# EAGLE library part BLE112 (library Bluegiga)
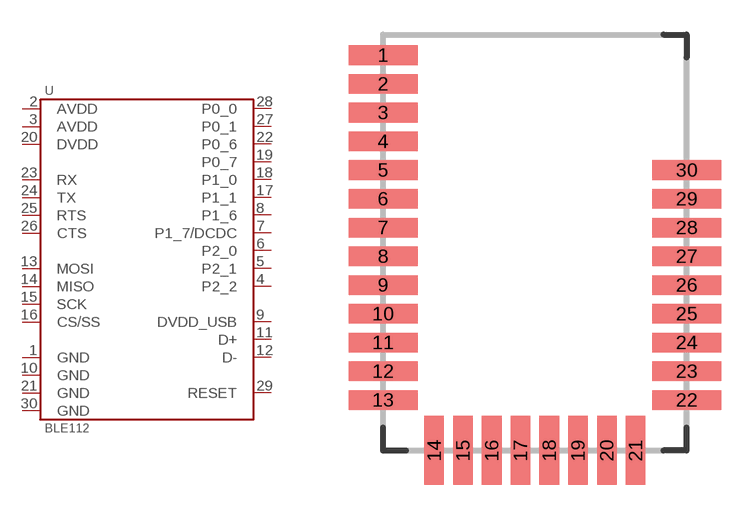
[diagram p1: symbol with the pads of BLE112; footprint BLE112]

Designator prefix U

## BLE112  [BLE112]
1  GND
2  AVDD
3  AVDD
4  P2_2
5  P2_1
6  P2_0
7  P1_7/DCDC
8  P1_6
9  DVDD_USB
10  GND
11  D+
12  D-
13  MOSI
14  MISO
15  SCK
16  CS/SS
17  P1_1
18  P1_0
19  P0_7
20  DVDD
21  GND
22  P0_6
23  RX
24  TX
25  RTS
26  CTS
27  P0_1
28  P0_0
29  RESET
30  GND

## Footprint BLE112 (pad centres in mm)
smd 3 x 0.85: 1 -6.58,8.45; 2 -6.58,7.2; 3 -6.58,5.95; 4 -6.58,4.7; 5 -6.58,3.45; 6 -6.58,2.2; 7 -6.58,0.95; 8 -6.58,-0.3; 9 -6.58,-1.55; 10 -6.58,-2.8; 11 -6.58,-4.05; 12 -6.58,-5.3; 13 -6.58,-6.55; 22 6.62,-6.55; 23 6.62,-5.3; 24 6.62,-4.05; 25 6.62,-2.8; 26 6.62,-1.55; 27 6.62,-0.3; 28 6.62,0.95; 29 6.62,2.2; 30 6.62,3.45
smd 0.85 x 3: 14 -4.355,-8.75; 15 -3.105,-8.75; 16 -1.855,-8.75; 17 -0.605,-8.75; 18 0.645,-8.75; 19 1.895,-8.75; 20 3.145,-8.75; 21 4.395,-8.75